# EAGLE library part P-?S?B (library #PaJa_prepinace)
Tlacitkovy prepinac - dvojity + LED P-0S... - bez aretace P-1S... - s aretaci
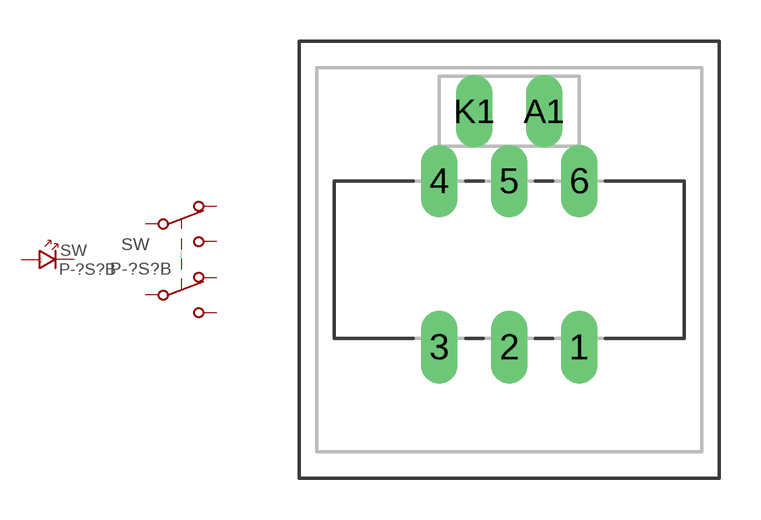
[diagram p9: symbol with the pads of P-0S?B; footprint P-0S?B]

Designator prefix SW; gates PREP=PREP_2 LED=LED

## P-SB  [P-0S?B]
1  PREP:X1  pas
2  PREP:R1  pas
3  PREP:S1  pas
4  PREP:X2  pas
5  PREP:R2  pas
6  PREP:S2  pas
A1  LED:A  pas
K1  LED:K  pas

## Footprint P-0S?B (pad centres in mm)
Tlacitkovy prepinac - dvojity + LED
drill 0.813 pad 1.27 long: 1 2.54,-3.175; 2 0,-3.175; 3 -2.54,-3.175; 4 -2.54,2.857; 5 0,2.857; 6 2.54,2.857; A1 1.27,5.397; K1 -1.27,5.397